# EAGLE library part KSZ8863MLL (library controller-r3)
Integrated 3-Port 10/100 Managed Switch with two 10/100BASE-T/TX transceivers and on MII interface
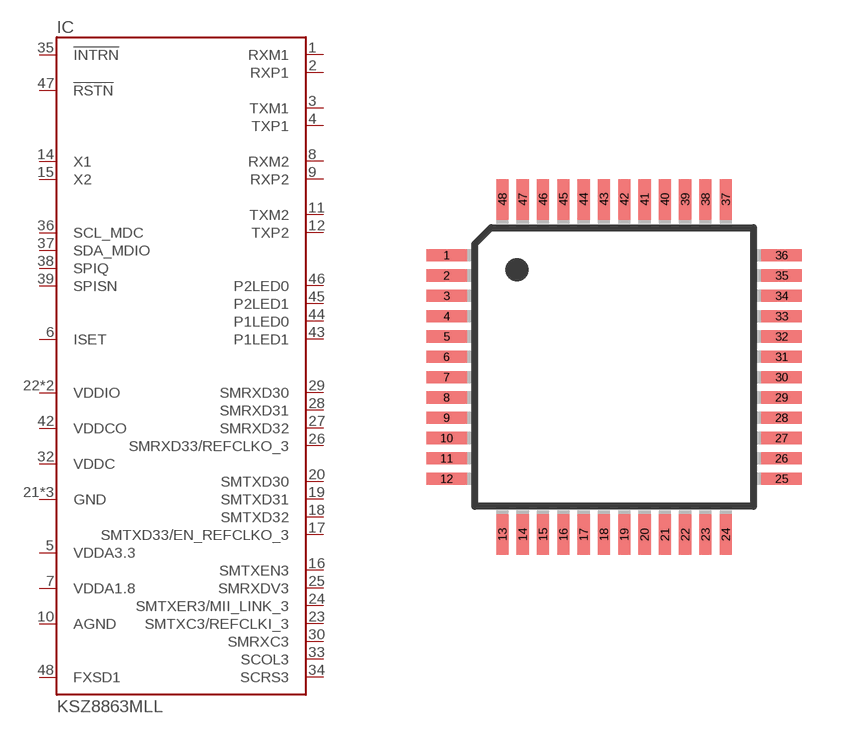
[diagram p0: symbol with the pads of TQFP48; footprint TQFP48]

Designator prefix IC

## KSZ8863MLL, KSZ8863MLLI  [TQFP48]
1  RXM1
2  RXP1
3  TXM1
4  TXP1
5  VDDA3.3  pwr
6  ISET  out
7  VDDA1.8  pwr
8  RXM2
9  RXP2
10  AGND  pwr
11  TXM2
12  TXP2
14  X1  in
15  X2  out
16  SMTXEN3  in
17  SMTXD33/EN_REFCLKO_3  in
18  SMTXD32  in
19  SMTXD31  in
20  SMTXD30  in
21  GND  pwr
22  VDDIO  pwr
23  SMTXC3/REFCLKI_3
24  SMTXER3/MII_LINK_3  in
25  SMRXDV3
26  SMRXD33/REFCLKO_3
27  SMRXD32
28  SMRXD31
29  SMRXD30
30  SMRXC3
31  GND  pwr
32  VDDC  pwr
33  SCOL3
34  SCRS3
35  !INTRN  out
36  SCL_MDC
37  SDA_MDIO
38  SPIQ
39  SPISN  in
40  VDDIO  pwr
41  GND  pwr
42  VDDCO  pwr
43  P1LED1
44  P1LED0
45  P2LED1
46  P2LED0
47  !RSTN  in
48  FXSD1  in

## Footprint TQFP48 (pad centres in mm)
Thin Plasic Quad Flat Package
smd 1.016 x 0.305: 1 -4.191,2.794; 2 -4.191,2.286; 3 -4.191,1.778; 4 -4.191,1.27; 5 -4.191,0.762; 6 -4.191,0.254; 7 -4.191,-0.254; 8 -4.191,-0.762; 9 -4.191,-1.27; 10 -4.191,-1.778; 11 -4.191,-2.286; 12 -4.191,-2.794; 25 4.191,-2.794; 26 4.191,-2.286; 27 4.191,-1.778; 28 4.191,-1.27; 29 4.191,-0.762; 30 4.191,-0.254; 31 4.191,0.254; 32 4.191,0.762; 33 4.191,1.27; 34 4.191,1.778; 35 4.191,2.286; 36 4.191,2.794
smd 0.305 x 1.016: 13 -2.794,-4.191; 14 -2.286,-4.191; 15 -1.778,-4.191; 16 -1.27,-4.191; 17 -0.762,-4.191; 18 -0.254,-4.191; 19 0.254,-4.191; 20 0.762,-4.191; 21 1.27,-4.191; 22 1.778,-4.191; 23 2.286,-4.191; 24 2.794,-4.191; 37 2.794,4.191; 38 2.286,4.191; 39 1.778,4.191; 40 1.27,4.191; 41 0.762,4.191; 42 0.254,4.191; 43 -0.254,4.191; 44 -0.762,4.191; 45 -1.27,4.191; 46 -1.778,4.191; 47 -2.286,4.191; 48 -2.794,4.191